# EAGLE library part TPS61023DRLT (library ruark2)
Boost Switching Regulator IC Positive Adjustable 2.2V 1 Output 3A SOT-563, SOT-666
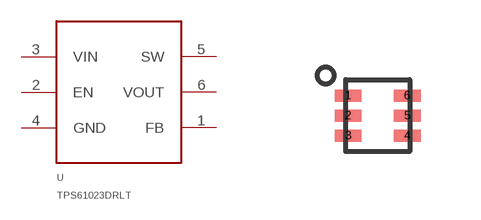
[diagram p100: symbol with the pads of SOT563; footprint SOT563]

Designator prefix U

## TPS61023DRLT (PARTNO: 296-TPS61023DRLTCT-ND)  [SOT563]
1  FB
2  EN
3  VIN
4  GND
5  SW
6  VOUT

## Footprint SOT563 (pad centres in mm)
smd 0.67 x 0.3: 1 -0.74,0.5; 2 -0.74,0; 3 -0.74,-0.5; 4 0.74,-0.5; 5 0.74,0; 6 0.74,0.5